# Altium footprint library 87831-0841.PcbLib: 1 footprints
Each footprint in its own frame and in the unit in brackets; x right, y up, seen from the top. Pads: shape width x height; smd on the part's side, far side on the other; paste and mask are expansions set on the pad; w line width, h text height; cw(c..) or ccw(c..) is an arc to the next point about the centre after c.
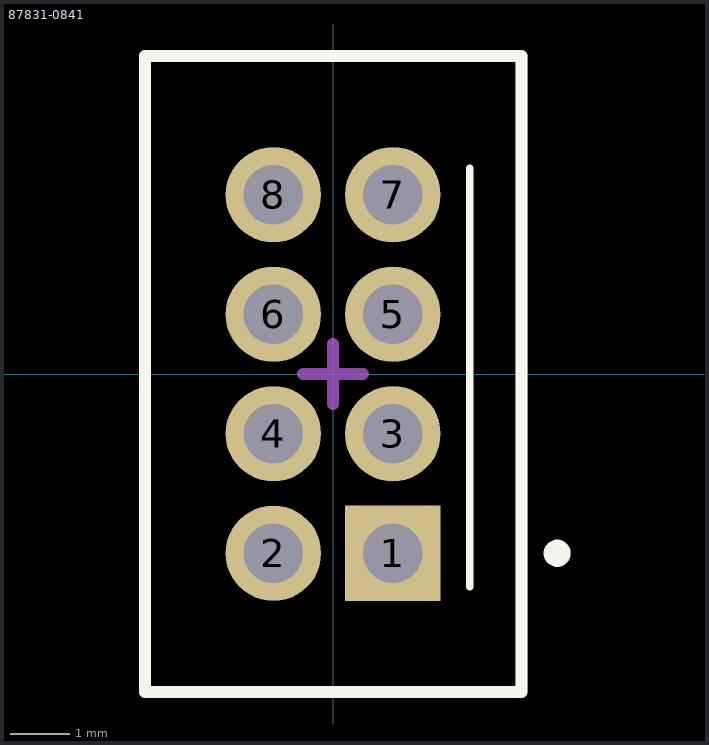
[diagram p0: the footprint, top view; thin cyan lines are the x and y axes]

## 87831-0841 [mm]
pads (8):
  rect 1.6x1.6 hole 1 mask+0.051: 1(1,-3)
  round 1.6 hole 1 mask+0.051: 2(-1,-3) 3(1,-1) 4(-1,-1) 5(1,1) 6(-1,1) 7(1,3) 8(-1,3)
Top Overlay:
  circle w0.254: c3.75,-3 r0.1
  lines w0.127: 2.286,-3.556 2.286,3.444
  lines w0.2: -3.15,-5.325 -3.15,5.325 3.15,5.325 3.15,-5.325 -3.15,-5.325
Mechanical 13:
  lines w0.2: -3.15,-5.325 3.15,-5.325 3.15,5.325 -3.15,5.325 -3.15,-5.325
Mechanical 15:
  lines w0.2: -0.5,0 0.5,0 ; 0,-0.5 0,0.5
3D body "878310841.stp": height 6.4, standoff -2.5, extent -3.15,-5.325 3.15,5.325